# Altium footprint library mc.PcbLib: 1 footprints
Each footprint in its own frame and in the unit in brackets; x right, y up, seen from the top. Pads: shape width x height; smd on the part's side, far side on the other; paste and mask are expansions set on the pad; w line width, h text height; cw(c..) or ccw(c..) is an arc to the next point about the centre after c.
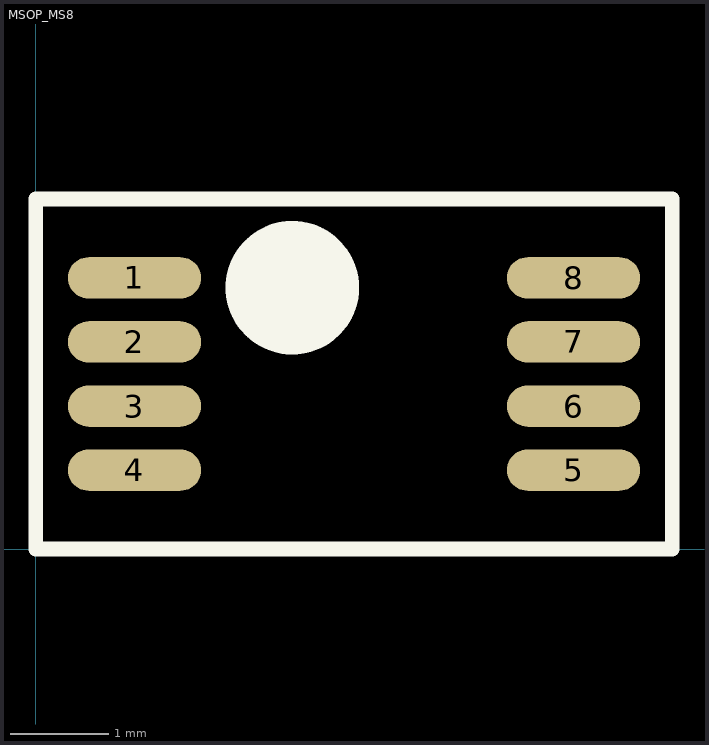
[diagram p0: the footprint, top view; thin cyan lines are the x and y axes]

## MSOP_MS8 [mm]
pads (8):
  oval 1.35x0.42 smd: 1(1,2.75) 2(1,2.1) 3(1,1.45) 4(1,0.8) 5(5.45,0.8) 6(5.45,1.45) 7(5.45,2.1) 8(5.45,2.75)
Top Overlay:
  circle w1: c2.6,2.65 r0.177
  lines w0.15: 0,0 0,3.55 6.45,3.55 6.45,0 0,0
3D body "MS8(MSOP).step": height 1.1, standoff 0, extent 0.737,0.225 5.713,3.325